# Altium footprint library lcsc com.PcbLib: 2 footprints
Each footprint in its own frame and in the unit in brackets; x right, y up, seen from the top. Pads: shape width x height; smd on the part's side, far side on the other; paste and mask are expansions set on the pad; w line width, h text height; cw(c..) or ccw(c..) is an arc to the next point about the centre after c.
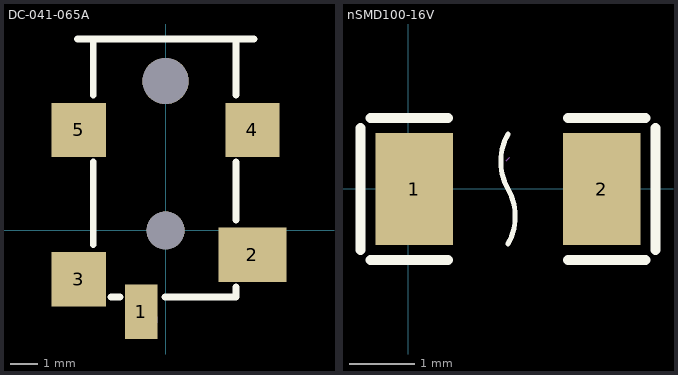
[diagram p0: the footprints below, top view; thin cyan lines are the x and y axes]

## DC-041-065A [mm] "DC-041-065A"
pads (7):
  rect 1.2x2 smd: 1(-0.9,-3.002)
  rect 2.5x2 smd: 2(3.2,-0.9)
  rect 2x2 smd: 3(-3.2,-1.8) 4(3.2,3.7) 5(-3.2,3.7)
  round 1.4 hole 1.4 unplated: ""(0,0)
  round 1.7 hole 1.7 unplated: ""(0,5.5)
Top Overlay:
  lines w0.254: -3.25,7.05 3.25,7.05 ; -2.665,-0.519 -2.665,2.519 ; -2.665,4.981 -2.665,7.05 ; -2.65,7.05 2.549,7.05 ; -2.019,-2.45 -1.681,-2.45 ; -0.019,-2.45 2.59,-2.45 2.59,-2.081 ; 2.59,0.381 2.59,2.519 ; 2.59,4.981 2.59,7.05
Mechanical 15:
  circle w0.6: c-0.9,-3.3 r0.3
3D body "OBJ_NEW_PCB.stp": height 0, standoff 0, extent -1270,-1266 -1270,-1266
3D body "OBJ_NEW_PCB.stp": height 0, standoff 0, extent -2515,-2550 -2515,-2550
3D body "OBJ_NEW_PCB.stp": height 0, standoff 0, extent -2525,-2532 -2525,-2532
3D body "OBJ_NEW_PCB.stp": height 0, standoff 0, extent -2537,-2552 -2537,-2552
3D body "OBJ_NEW_PCB.stp": height 0, standoff 0, extent -2543,-2546 -2543,-2546
3D body "OBJ_NEW_PCB.stp": height 0, standoff 0, extent -2546,-2546 -2546,-2546
3D body "OBJ_NEW_PCB.stp": height 0, standoff 0, extent -2545,-2551 -2545,-2551
3D body "OBJ_NEW_PCB.stp": height 0, standoff 0, extent -2550,-2542 -2550,-2542

## nSMD100-16V [mm]
pads (2):
  rect 1.19x1.728 smd: 1(0.09,-0.006) 2(2.98,-0.006)
Top Overlay:
  lines w0.076: 1.535,-0.851 ccw(c0.803,-0.429) 1.535,-0.006 cw(c2.267,0.416) 1.535,0.839
  lines w0.152: -0.734,-0.946 -0.734,0.934 ; -0.581,-1.099 0.609,-1.099 ; -0.581,1.086 0.609,1.086 ; 2.461,-1.099 3.651,-1.099 ; 2.461,1.086 3.651,1.086 ; 3.804,-0.946 3.804,0.934
Mechanical 15:
  lines w0.003: 1.51,0.432 1.56,0.483